# EAGLE library part IC-REGULATOR-SWITCHING- (library elpp-smt-v1.1)
Switching voltage regulator
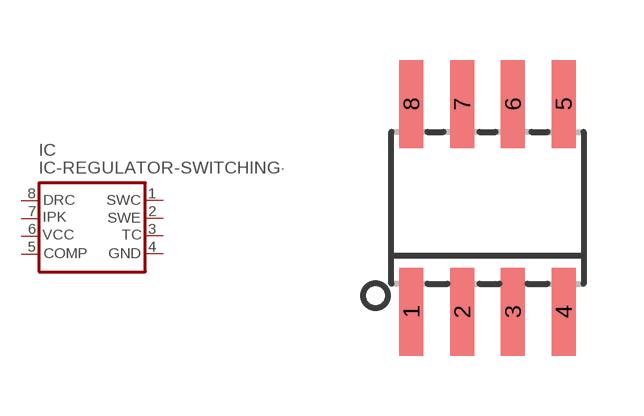
[diagram p4: symbol with the pads of ELPP-SOIC-8; footprint ELPP-SOIC-8]

Designator prefix IC

## IC-REGULATOR-SWITCHING-MC34063A (FARNELL: 1053582; RS: 6618436)  [ELPP-SOIC-8]
1  1
2  2
3  3  in
4  4  in
5  5  in
6  6  in
7  7  in
8  8  in

## Footprint ELPP-SOIC-8 (pad centres in mm)
SOIC-8
smd 0.6 x 2.2: 1 -1.905,-2.6; 2 -0.635,-2.6; 3 0.635,-2.6; 4 1.905,-2.6; 5 1.905,2.6; 6 0.635,2.6; 7 -0.635,2.6; 8 -1.905,2.6